# Altium footprint library CustomPCBLib.PcbLib: 2 footprints
Each footprint in its own frame and in the unit in brackets; x right, y up, seen from the top. Pads: shape width x height; smd on the part's side, far side on the other; paste and mask are expansions set on the pad; w line width, h text height; cw(c..) or ccw(c..) is an arc to the next point about the centre after c.
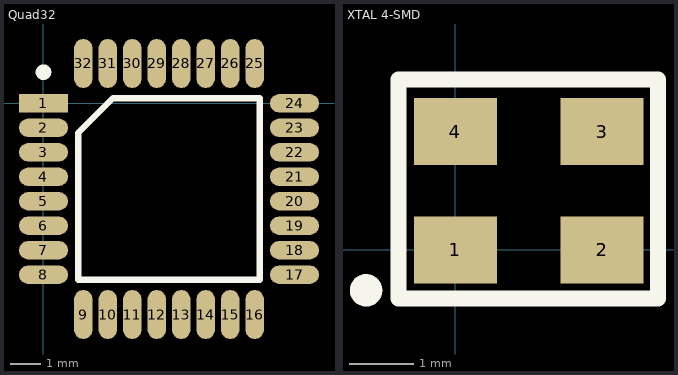
[diagram p0: the footprints below, top view; thin cyan lines are the x and y axes]

## Quad32 [mm]
pads (32):
  rect 1.6x0.6 smd: 1(0,0)
  oval 1.6x0.6 smd: 2(0,-0.8) 3(0,-1.6) 4(0,-2.4) 5(0,-3.2) 6(0,-4) 7(0,-4.8) 8(0,-5.6) 17(8.2,-5.6) 18(8.2,-4.8) 19(8.2,-4) 20(8.2,-3.2) 21(8.2,-2.4) 22(8.2,-1.6) 23(8.2,-0.8) 24(8.2,0)
  oval 0.6x1.6 smd: 9(1.3,-6.9) 10(2.1,-6.9) 11(2.9,-6.9) 12(3.7,-6.9) 13(4.5,-6.9) 14(5.3,-6.9) 15(6.1,-6.9) 16(6.9,-6.9) 25(6.9,1.3) 26(6.1,1.3) 27(5.3,1.3) 28(4.5,1.3) 29(3.7,1.3) 30(2.9,1.3) 31(2.1,1.3) 32(1.3,1.3)
Top Overlay:
  circle w0.254: c0,1.016 r0.127
  lines w0.2: 1.135,-5.765 7.065,-5.765 7.065,0.165 2.27,0.165 1.135,-0.97 1.135,-5.765

## XTAL 4-SMD [mm] "12MHz ±20ppm Crystal 18pF 250 Ohms 4-SMD"
pads (4):
  rect 1.3x1.05 smd: 1(0,0) 2(2.3,0) 3(2.3,1.85) 4(0,1.85)
Top Overlay:
  circle w0.254: c-1.397,-0.635 r0.127
  lines w0.254: -0.889,-0.762 -0.889,2.667 3.175,2.667 3.175,-0.762 -0.889,-0.762